# EAGLE library part ESP-07 (library ESP8266)
ESP8266 module with integrated ceramic antenna and additional antenna socket
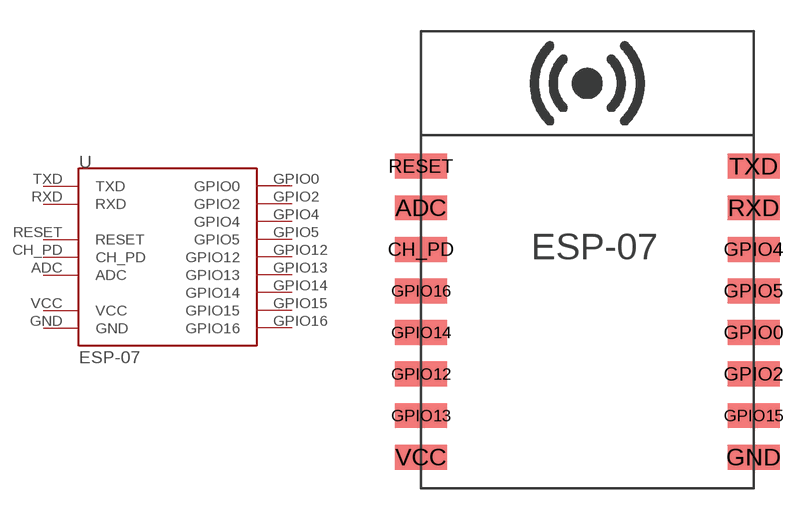
[diagram p0: symbol with the pads of ESP-07; footprint ESP-07]

Designator prefix -

## ESP-07  [ESP-07]
ADC  ADC
CH_PD  CH_PD
GND  GND
GPIO0  GPIO0
GPIO2  GPIO2
GPIO4  GPIO4
GPIO5  GPIO5
GPIO12  GPIO12
GPIO13  GPIO13
GPIO14  GPIO14
GPIO15  GPIO15
GPIO16  GPIO16
RESET  RESET
RXD  RXD
TXD  TXD
VCC  VCC

## Footprint ESP-07 (pad centres in mm)
smd 2.5 x 1.2: ADC -8,3.5; CH_PD -8,1.5; GND 8,-8.5; GPIO0 8,-2.5; GPIO2 8,-4.5; GPIO4 8,1.5; GPIO5 8,-0.5; GPIO12 -8,-4.5; GPIO13 -8,-6.5; GPIO14 -8,-2.5; GPIO15 8,-6.5; GPIO16 -8,-0.5; RESET -8,5.5; RXD 8,3.5; TXD 8,5.5; VCC -8,-8.5